# Altium footprint library Basic.PcbLib: 47 footprints (part 3 of 3)
Each footprint in its own frame and in the unit in brackets; x right, y up, seen from the top. Pads: shape width x height; smd on the part's side, far side on the other; paste and mask are expansions set on the pad; w line width, h text height; cw(c..) or ccw(c..) is an arc to the next point about the centre after c.
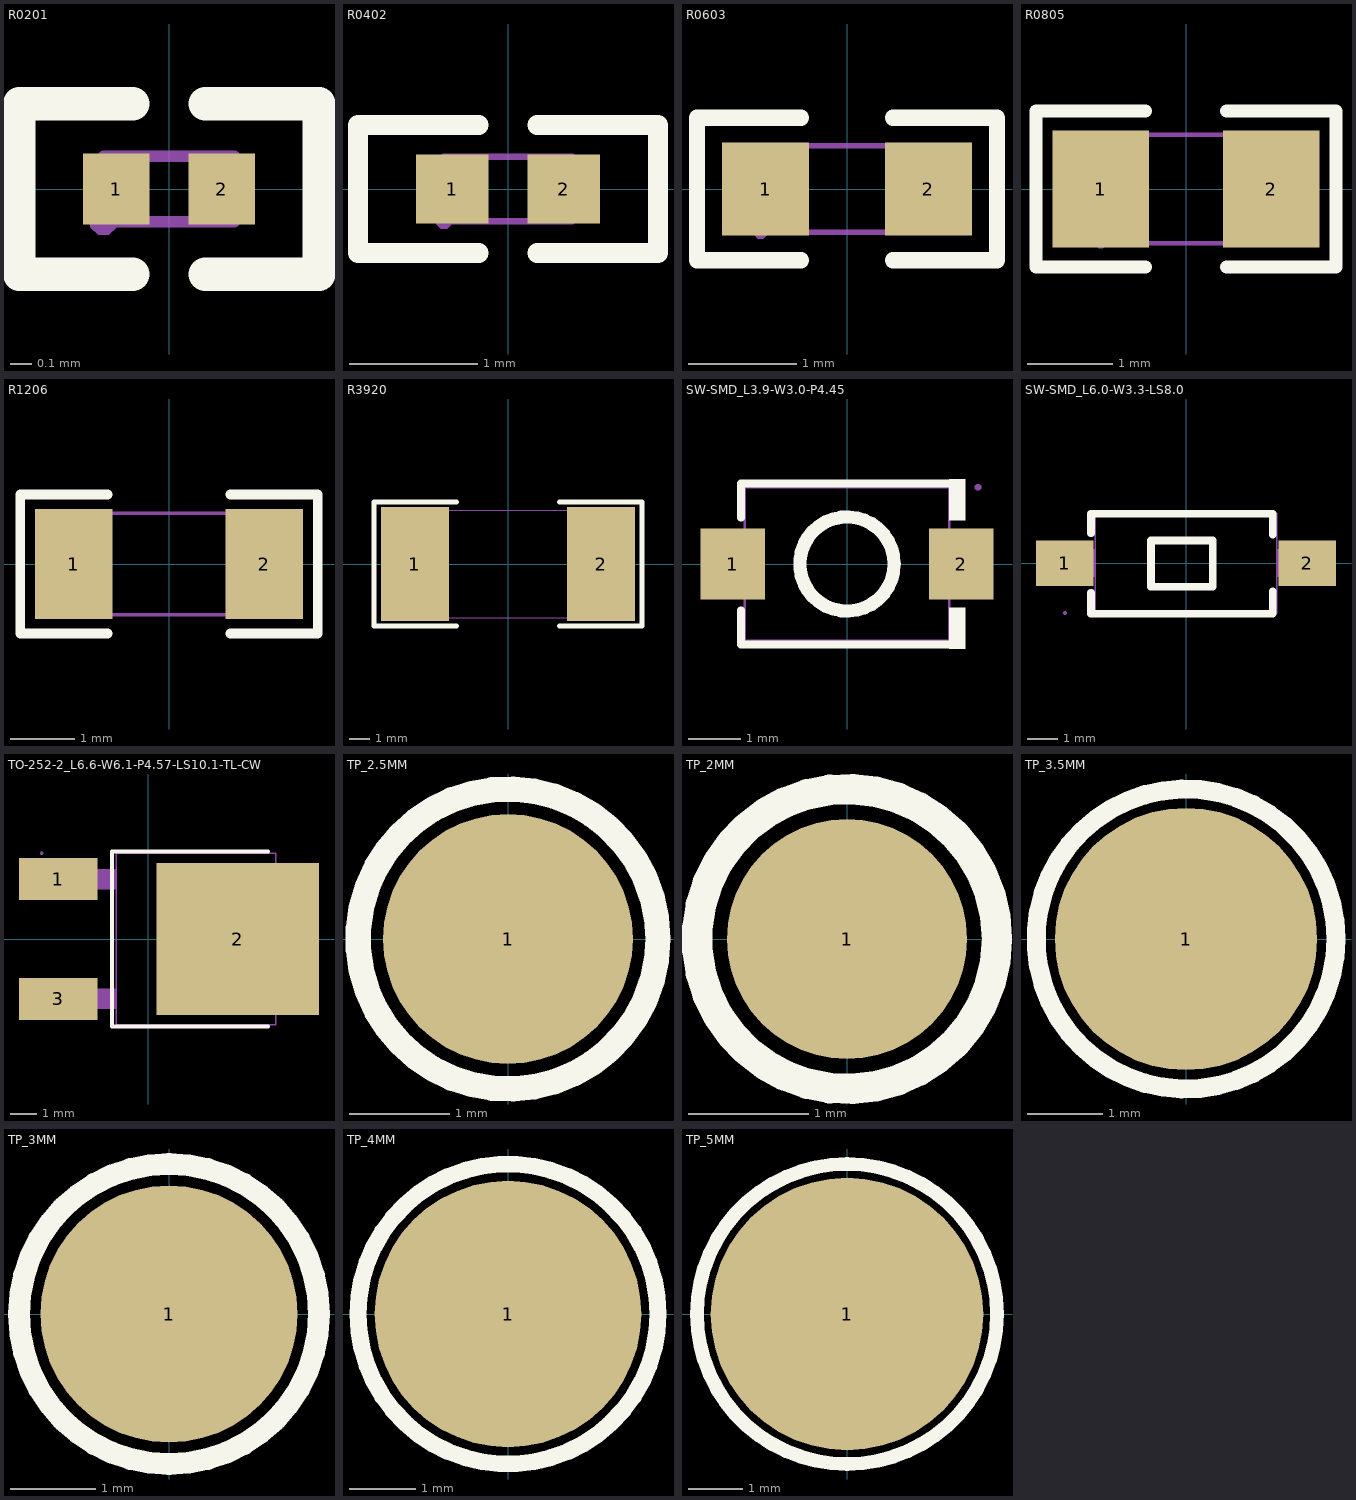
[diagram p2: the footprints below, top view; thin cyan lines are the x and y axes]

## R0201 [mm] "贴片电阻_R0201"
pads (2):
  rect 0.303x0.324 smd paste-100 mask+0.051: 1(-0.242,0) 2(0.242,0)
Top Overlay:
  lines w0.152: -0.166,-0.391 -0.687,-0.391 -0.687,0.391 -0.166,0.391 ; 0.166,-0.391 0.687,-0.391 0.687,0.391 0.166,0.391
Top Paste:
  region: -0.081,-0.138 -0.081,0.138 -0.105,0.162 -0.369,0.162 -0.393,0.138 -0.393,-0.138 -0.369,-0.162 -0.105,-0.162
  region: 0.081,-0.138 0.081,0.138 0.105,0.162 0.369,0.162 0.393,0.138 0.393,-0.138 0.369,-0.162 0.105,-0.162
Mechanical 15:
  region: 0.3,-0.15 0.3,0.15 0.15,0.15 0.15,-0.15
  region: -0.3,-0.15 -0.3,0.15 -0.15,0.15 -0.15,-0.15
  region: -0.24,-0.15 -0.24,-0.125 -0.275,-0.09 -0.325,-0.09 -0.36,-0.125 -0.36,-0.15 -0.36,-0.175 -0.325,-0.21 -0.275,-0.21 -0.24,-0.175
  lines w0.051: -0.3,-0.15 0.3,-0.15 0.3,0.15 -0.3,0.15 -0.3,-0.15
3D body "R0201.step": height 0.24, standoff 0, extent -0.3,-0.15 0.3,0.151

## R0402 [mm] "贴片电阻_R0402"
pads (2):
  rect 0.566x0.54 smd paste-100 mask+0.051: 1(-0.433,0) 2(0.433,0)
Top Overlay:
  lines w0.152: -0.226,-0.499 -1.169,-0.499 -1.169,0.499 -0.226,0.499 ; 0.226,-0.499 1.169,-0.499 1.169,0.499 0.226,0.499
Top Paste:
  region: 0.135,-0.23 0.135,0.23 0.175,0.27 0.676,0.27 0.716,0.23 0.716,-0.23 0.676,-0.27 0.175,-0.27
  region: -0.135,-0.23 -0.135,0.23 -0.175,0.27 -0.676,0.27 -0.716,0.23 -0.716,-0.23 -0.676,-0.27 -0.175,-0.27
Mechanical 15:
  region: -0.44,-0.25 -0.44,-0.225 -0.475,-0.19 -0.525,-0.19 -0.56,-0.225 -0.56,-0.25 -0.56,-0.275 -0.525,-0.31 -0.475,-0.31 -0.44,-0.275
  region: 0.251,-0.25 0.251,0.25 0.501,0.25 0.501,-0.25
  region: -0.249,0.25 -0.249,-0.25 -0.499,-0.25 -0.499,0.25
  lines w0.051: -0.5,-0.25 -0.5,0.25 0.5,0.25 0.5,-0.25 -0.5,-0.25
3D body "R0402.step": height 0.36, standoff 0, extent -0.5,-0.25 0.5,0.251

## R0603 [mm] "贴片电阻_R0602"
pads (2):
  rect 0.806x0.864 smd paste-100 mask+0.051: 1(-0.753,0) 2(0.753,0)
Top Overlay:
  lines w0.152: -0.426,-0.661 -1.39,-0.661 -1.39,0.661 -0.426,0.661 ; 0.426,-0.661 1.385,-0.661 ; 0.426,0.661 1.39,0.661 1.39,-0.661
Top Paste:
  region: -1.195,-0.45 -0.395,-0.45 -0.345,-0.4 -0.345,-0.172 -0.715,-0.172 -0.715,0.158 -0.345,0.158 -0.345,0.4 -0.395,0.45 -1.195,0.45 -1.245,0.4 -1.245,-0.4
  region: 1.195,0.45 0.395,0.45 0.345,0.4 0.345,0.172 0.715,0.172 0.715,-0.158 0.345,-0.158 0.345,-0.4 0.395,-0.45 1.195,-0.45 1.245,-0.4 1.245,0.4
Mechanical 15:
  region: 0.8,-0.4 0.8,0.4 0.5,0.4 0.5,-0.4
  region: -0.8,-0.4 -0.8,0.4 -0.5,0.4 -0.5,-0.4
  region: -0.74,-0.4 -0.74,-0.375 -0.775,-0.34 -0.825,-0.34 -0.86,-0.375 -0.86,-0.4 -0.86,-0.425 -0.825,-0.46 -0.775,-0.46 -0.74,-0.425
  lines w0.051: -0.8,-0.4 0.8,-0.4 0.8,0.4 -0.8,0.4 -0.8,-0.4
3D body "R0603.step": height 0.85, standoff 0, extent -0.8,-0.4 0.8,0.401

## R0805 [mm] "贴片电阻_R0805"
pads (2):
  rect 1.133x1.377 smd paste-100 mask+0.051: 1(-1,0) 2(1,0)
Top Overlay:
  lines w0.152: -0.476,-0.917 -1.761,-0.917 -1.761,0.917 -0.476,0.917 ; 0.476,-0.917 1.761,-0.917 1.761,0.917 0.476,0.917
Top Paste:
  region: -1.7,-0.64 -1.7,0.64 -1.65,0.69 -0.5,0.69 -0.45,0.64 -0.445,0.23 -0.895,0.23 -0.895,-0.22 -0.455,-0.22 -0.45,-0.64 -0.5,-0.69 -1.65,-0.69
  region: 0.45,-0.64 0.45,-0.22 0.895,-0.22 0.895,0.23 0.455,0.23 0.45,0.64 0.5,0.69 1.65,0.69 1.7,0.64 1.7,-0.64 1.65,-0.69 0.5,-0.69
Mechanical 15:
  region: -0.94,-0.638 -0.941,-0.614 -0.976,-0.58 -1.024,-0.58 -1.059,-0.613 -1.06,-0.637 -1.059,-0.661 -1.024,-0.695 -0.976,-0.695 -0.941,-0.662
  region: -1,-0.637 -1,0.637 -0.6,0.637 -0.6,-0.637
  region: 1,-0.637 1,0.637 0.6,0.637 0.6,-0.637
  lines w0.051: -1,-0.637 -1,0.637 1,0.637 1,-0.637 -1,-0.637
3D body "R0805.step": height 0.61, standoff 0, extent -1,-0.65 1,0.651

## R1206 [mm] "贴片电阻_R1206"
pads (2):
  rect 1.208x1.701 smd paste-100 mask+0.051: 1(-1.479,0) 2(1.479,0)
Top Overlay:
  lines w0.152: -0.951,-1.079 -2.311,-1.079 -2.311,1.079 -0.951,1.079 ; 0.951,-1.079 2.311,-1.079 2.311,1.079 0.951,1.079
Top Paste:
  region: 0.875,-0.75 0.875,-0.389 0.975,-0.289 1.186,-0.289 1.286,-0.189 1.286,0.189 1.186,0.289 0.975,0.289 0.875,0.389 0.875,0.75 0.975,0.85 1.983,0.85 2.083,0.75 2.083,-0.75 1.983,-0.85 0.975,-0.85
  region: -0.875,-0.75 -0.875,-0.389 -0.975,-0.289 -1.186,-0.289 -1.286,-0.189 -1.286,0.189 -1.186,0.289 -0.975,0.289 -0.875,0.389 -0.875,0.75 -0.975,0.85 -1.983,0.85 -2.083,0.75 -2.083,-0.75 -1.983,-0.85 -0.975,-0.85
Mechanical 15:
  region: -1.49,-0.787 -1.491,-0.763 -1.526,-0.729 -1.574,-0.729 -1.609,-0.763 -1.61,-0.788 -1.61,-0.787 -1.609,-0.812 -1.574,-0.846 -1.526,-0.846 -1.491,-0.812
  region: -1.55,-0.788 -1.55,0.788 -1.1,0.788 -1.1,-0.788
  region: 1.55,-0.788 1.55,0.788 1.1,0.788 1.1,-0.788
  lines w0.051: -1.55,-0.788 -1.55,0.788 1.55,0.788 1.55,-0.788 -1.55,-0.788
3D body "R1206.step": height 0.56, standoff 0, extent -1.6,-0.8 1.6,0.801

## R3920 [mm]
pads (2):
  rect 3.3x5.5 smd paste+0.051 mask+0: 1(-4.5,0) 2(4.5,0)
Top Overlay:
  lines w0.254: -2.5,-3 -6.477,-3 -6.477,3 -2.5,3 ; 2.5,-3 6.477,-3 6.477,3 2.5,3
Mechanical 6:
  lines w0.051: -5,-2.6 -5,2.6 5,2.6 5,-2.6 -5,-2.6
Mechanical 8:
  region: -4.94,-2.6 -4.94,-2.625 -4.975,-2.66 -5.025,-2.66 -5.06,-2.625 -5.06,-2.6 -5.06,-2.575 -5.025,-2.54 -4.975,-2.54 -4.94,-2.575
Mechanical 9:
  region: -5,2.6 -3,2.6 -3,-2.6 -5,-2.6
  region: 3,2.6 5,2.6 5,-2.6 3,-2.6
3D body "R3920.step": height 1.01, standoff 0.01, extent -5,-2.55 5,2.55

## SW-SMD_L3.9-W3.0-P4.45 [mm]
pads (2):
  rect 1.23x1.36 smd: 1(-2.185,0) 2(2.185,0)
Top Overlay:
  circle w0.254: c0,0 r0.9
  region: 1.95,1.617 1.95,0.832 2.255,0.832 2.255,1.617
  region: 1.95,-1.617 1.95,-0.832 2.255,-0.832 2.255,-1.617
  lines w0.152: -2.026,-0.883 -2.026,-1.541 2.026,-1.541 ; -2.026,0.883 -2.026,1.541 2.026,1.541
Mechanical 15:
  region: -2.5,0.65 -2.5,-0.65 -1.6,-0.65 -1.6,0.65
  region: 2.5,0.65 2.5,-0.65 1.6,-0.65 1.6,0.65
  region: 2.56,1.465 2.56,1.49 2.525,1.525 2.475,1.525 2.44,1.49 2.44,1.465 2.44,1.44 2.475,1.405 2.525,1.405 2.56,1.44
  lines w0.051: -1.95,-1.465 -1.95,1.465 1.95,1.465 1.95,-1.465 -1.95,-1.465
3D body "KEY_SMD-L3.9-W3.0.step": height 1.95, standoff 0, extent -2.4,-1.45 2.4,1.45

## SW-SMD_L6.0-W3.3-LS8.0 [mm]
pads (2):
  rect 1.9x1.5 smd: 1(-4,0) 2(4,0)
Top Overlay:
  lines w0.254: -3.137,-0.981 -3.137,-1.668 2.863,-1.668 2.863,-0.935 ; -3.137,0.981 -3.137,1.632 2.863,1.632 2.863,0.935 ; -1.153,-0.78 -1.153,0.744 0.879,0.744 0.879,-0.78 -1.153,-0.78
Mechanical 15:
  region: -3.62,-0.45 -3.62,0.45 -2.99,0.45 -2.99,-0.45
  region: 3.62,0.45 3.62,-0.45 2.99,-0.45 2.99,0.45
  region: 3.3,-0.45 3.3,0.45 4,0.45 4,-0.45
  region: -3.999,-0.45 -3.999,0.45 -3.299,0.45 -3.299,-0.45
  region: -3.939,-1.65 -3.94,-1.626 -3.975,-1.593 -4.023,-1.593 -4.058,-1.626 -4.059,-1.65 -4.058,-1.674 -4.023,-1.707 -3.975,-1.707 -3.94,-1.674
  lines w0.051: -3,-1.65 3,-1.65 3,1.65 -3,1.65 -3,-1.65
3D body "KEY_SMD-L6.0-W3.3.step": height 2.6, standoff 0, extent -3.95,-1.8 3.95,1.801

## TO-252-2_L6.6-W6.1-P4.57-LS10.1-TL-CW [mm]
pads (3):
  rect 3x1.6 smd: 1(-3.424,2.285) 3(-3.424,-2.285)
  rect 6.2x5.8 smd: 2(3.424,0)
Top Overlay:
  lines w0.152: 4.585,-3.346 -1.383,-3.346 -1.383,3.346 4.585,3.346
Mechanical 6:
  circle w0.6: c-3.937,2.413 r0.3
Mechanical 15:
  region: -4.001,3.27 -4.001,3.245 -4.036,3.21 -4.086,3.21 -4.121,3.245 -4.121,3.27 -4.121,3.295 -4.086,3.33 -4.036,3.33 -4.001,3.295
  region: 6.099,2.65 6.099,-2.65 0.749,-2.65 0.749,2.65
  region: -1.21,2.665 -1.21,1.905 -2.48,1.905 -2.48,2.665
  region: -2.471,2.665 -2.471,1.905 -4.061,1.905 -4.061,2.665
  region: -1.211,-1.905 -1.211,-2.665 -2.481,-2.665 -2.481,-1.905
  region: -2.471,-1.905 -2.471,-2.665 -4.061,-2.665 -4.061,-1.905
  lines w0.051: -1.221,-3.27 -1.221,3.27 4.874,3.27 4.874,-3.27 -1.221,-3.27
3D body "TO-252-2.step": height 2.3, standoff 0, extent -3.359,-3.302 6.56,3.298

## TP_2.5MM [mm]
pads (1):
  round 2.5 smd: 1(0,0)
Top Overlay:
  circle w0.254: c0,0 r1.5

## TP_2MM [mm]
pads (1):
  round 2 smd: 1(0,0)
Top Overlay:
  circle w0.254: c0,0 r1.25

## TP_3.5MM [mm]
pads (1):
  round 3.5 smd: 1(0,0)
Top Overlay:
  circle w0.254: c0,0 r2

## TP_3MM [mm]
pads (1):
  round 3 smd: 1(0,0)
Top Overlay:
  circle w0.254: c0,0 r1.75

## TP_4MM [mm]
pads (1):
  round 4 smd: 1(0,0)
Top Overlay:
  circle w0.254: c0,0 r2.25

## TP_5MM [mm]
pads (1):
  round 5 smd: 1(0,0)
Top Overlay:
  circle w0.254: c0,0 r2.75